# Altium footprint library smoothie-lib.PcbLib: 9 footprints
Each footprint in its own frame and in the unit in brackets; x right, y up, seen from the top. Pads: shape width x height; smd on the part's side, far side on the other; paste and mask are expansions set on the pad; w line width, h text height; cw(c..) or ccw(c..) is an arc to the next point about the centre after c.
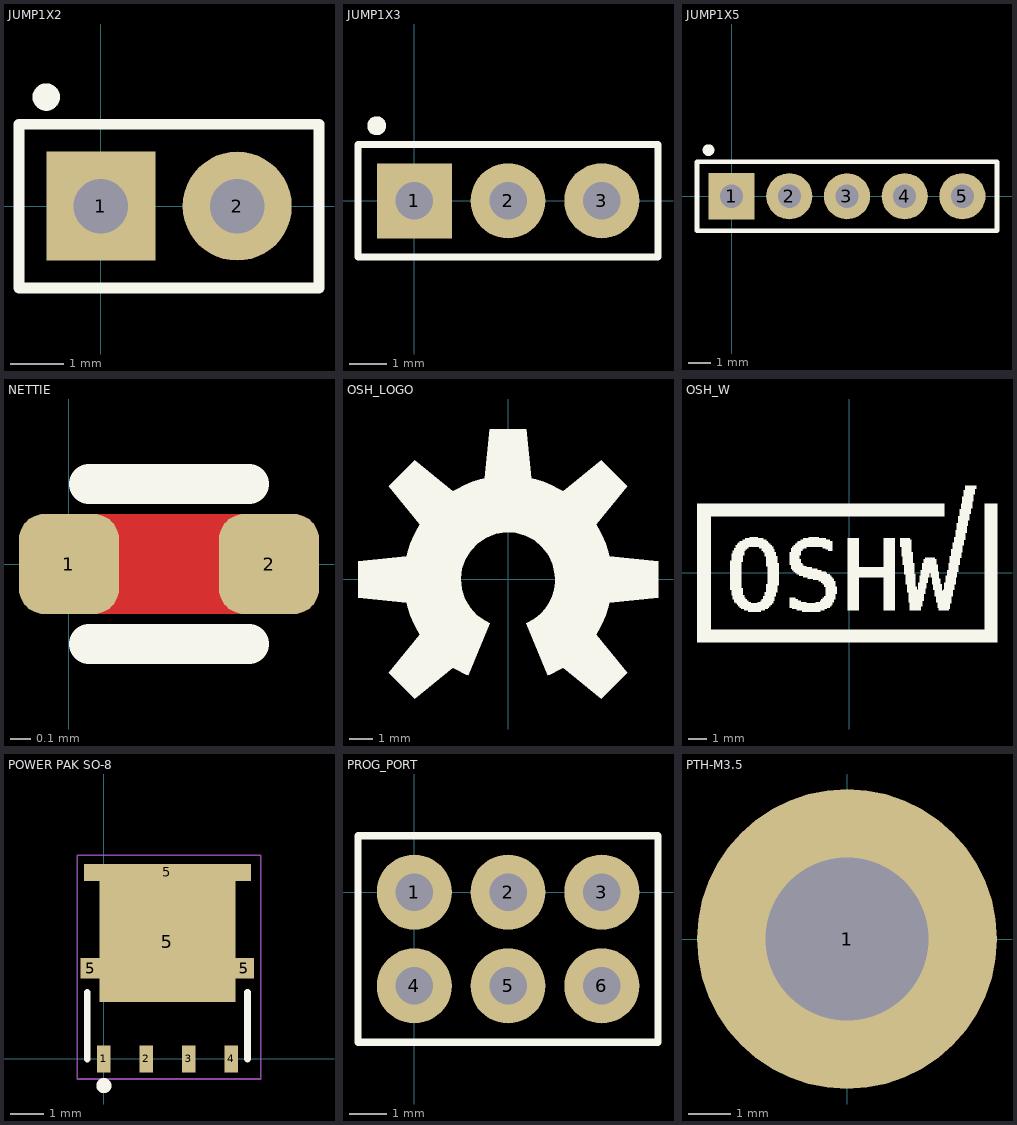
[diagram p0: the footprints below, top view; thin cyan lines are the x and y axes]

## JUMP1X2 [mil] "JUMPER, 1X3"
pads (2):
  rect 80x80 hole 40: 1(0,0)
  round 80 hole 40: 2(100,0)
Top Overlay:
  circle w10: c-40,80 r5.1
  lines w7.87: -60,-60 -60,60 160,60 160,-60 -60,-60

## JUMP1X3 [mil] "JUMPER, 1X3"
pads (3):
  rect 80x80 hole 40: 1(0,0)
  round 80 hole 40: 2(100,0) 3(200,0)
Top Overlay:
  circle w10: c-40,80 r5.1
  lines w7.87: -60,-60 260,-60 260,60 -60,60 -60,-60

## JUMP1X5 [mil] "JUMPER, 1X5"
pads (5):
  rect 80x80 hole 40: 1(0,0)
  round 80 hole 40: 2(100,0) 3(200,0) 4(300,0) 5(400,0)
Top Overlay:
  circle w10: c-40,80 r5.1
  lines w7.87: -60,-60 460,-60 460,60 -60,60 -60,-60

## NETTIE [mm] "NETTIE .5mm"
pads (2):
  rrect50% 0.5x0.5 smd paste+0 mask+0.102: 1(0,0) 2(1,0)
Top Layer:
  lines w0.5: 0,0 1,0
Top Overlay:
  lines w0.2: 0.1,-0.4 0.9,-0.4 ; 0.1,0.4 0.9,0.4

## OSH_LOGO [mil]
Top Overlay:
  region: -65.77,-158.79 -69.06,-157.43 -75.53,-154.43 -81.86,-151.17 -88.06,-147.65 -91.08,-145.76 -153.92,-197 -197,-153.92 -145.76,-91.08 -149.54,-85.03 -156.07,-72.36 -161.52,-59.19 -165.87,-45.61 -167.47,-38.66 -248.14,-30.47 -248.14,30.47 -167.47,38.66 -165.87,45.61 -161.52,59.19 -156.07,72.36 -149.54,85.03 -145.76,91.08 -197,153.92 -153.92,197 -91.08,145.76 -85.03,149.54 -72.36,156.07 -59.19,161.52 -45.61,165.87 -38.66,167.47 -30.47,248.14 30.47,248.14 38.66,167.47 45.61,165.87 59.19,161.52 72.36,156.07 85.03,149.54 91.08,145.76 153.92,197 197,153.92 145.76,91.08 149.54,85.03 156.07,72.36 161.52,59.19 165.87,45.61 167.47,38.66 248.14,30.47 248.14,-30.47 167.47,-38.66 165.87,-45.61 161.52,-59.19 156.07,-72.36 149.54,-85.03 145.76,-91.08 197,-153.92 153.92,-197 91.08,-145.76 88.06,-147.65 81.86,-151.17 75.53,-154.43 69.06,-157.43 65.77,-158.79 29.9,-72.18 35.13,-69.78 44.99,-63.88 53.87,-56.58 61.59,-48.07 67.98,-38.51 72.89,-28.12 76.23,-17.12 77.92,-5.75 78.13,0 77.67,8.42 74.07,24.87 67.02,40.17 56.85,53.6 44.04,64.53 29.19,72.47 12.98,77.05 -3.83,78.04 -20.47,75.4 -36.15,69.26 -50.15,59.91 -61.83,47.77 -70.63,33.41 -76.15,17.5 -78.13,0.77 -76.47,-15.99 -71.27,-32.01 -62.75,-46.54 -51.32,-58.91 -37.51,-68.54 -29.9,-72.18

## OSH_W [mil]
Top Overlay:
  drawing of 622 lines, arcs and shapes, not listed

## POWER PAK SO-8 [mm]
pads (8):
  rect 0.41x0.82 smd: 1(0,0) 2(1.27,0) 3(2.54,0) 4(3.81,0)
  rect 0.595x0.61 smd: 5(-0.4,2.715) 5(4.2,2.715)
  rect 4.061x3.63 smd: 5(1.905,3.516)
  rect 5x0.51 smd: 5(1.905,5.586)
Top Overlay:
  circle w0.254: c0,-0.8 r0.1
  lines w0.2: -0.5,0 -0.5,2 ; 4.3,0 4.3,2
Mechanical 15 (Mech15):
  lines w0.05: -0.8,-0.6 4.7,-0.6 4.7,6.1 -0.8,6.1 -0.8,-0.6

## PROG_PORT [mil] "2X3 PROGRAMMING PORT"
pads (6):
  round 80 hole 40: 1(0,0) 2(100,0) 3(200,0) 4(0,-100) 5(100,-100) 6(200,-100)
Top Overlay:
  lines w7.87: -60,-160 -60,60 260,60 260,-160 -60,-160

## PTH-M3.5 [mm] "Free fit for M3.5 screw"
pads (1):
  round 7 hole 3.8: 1(0,0)
3D body "92000A155_18-8 SS METRIC PAN HEAD PHIL MACHINE SCREW.STEP": height 2.7, standoff -10, extent -3.5,-3.5 3.5,3.5